# EAGLE library part MCP1640 (library graftel-internal-ic)
MCP1640 0.65V Start-up Synchronous Boost Regulator with True Output Disconnect or Input/Output Bypass Option The MCP1640/B/C/D is a compact, high-efficiency, fixed frequency, synchronous step-up DC-DC converter. http://ww1.microchip.com/downloads/en/DeviceDoc/22234B.pdf
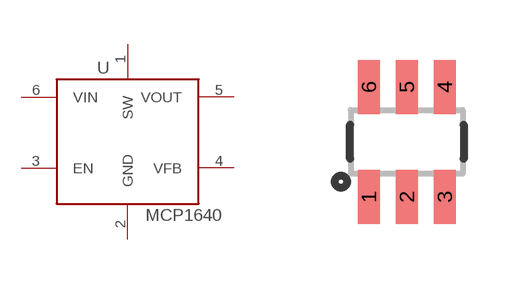
[diagram p7: symbol with the pads of SOT23-6; footprint SOT23-6]

Designator prefix U

## MCP1640  [SOT23-6]
1  SW  pas
2  GND  pwr
3  EN  in
4  VFB  in
5  VOUT  pwr
6  VIN  pwr

## Footprint SOT23-6 (pad centres in mm)
smd 0.55 x 1.35: 1 -0.95,-1.375; 2 0,-1.375; 3 0.95,-1.375; 4 0.95,1.375; 5 0,1.375; 6 -0.95,1.375